# Altium schematic symbol library kmilo17pet-NSC_LDO.SchLib: 2675 symbols (part 46 of 65)
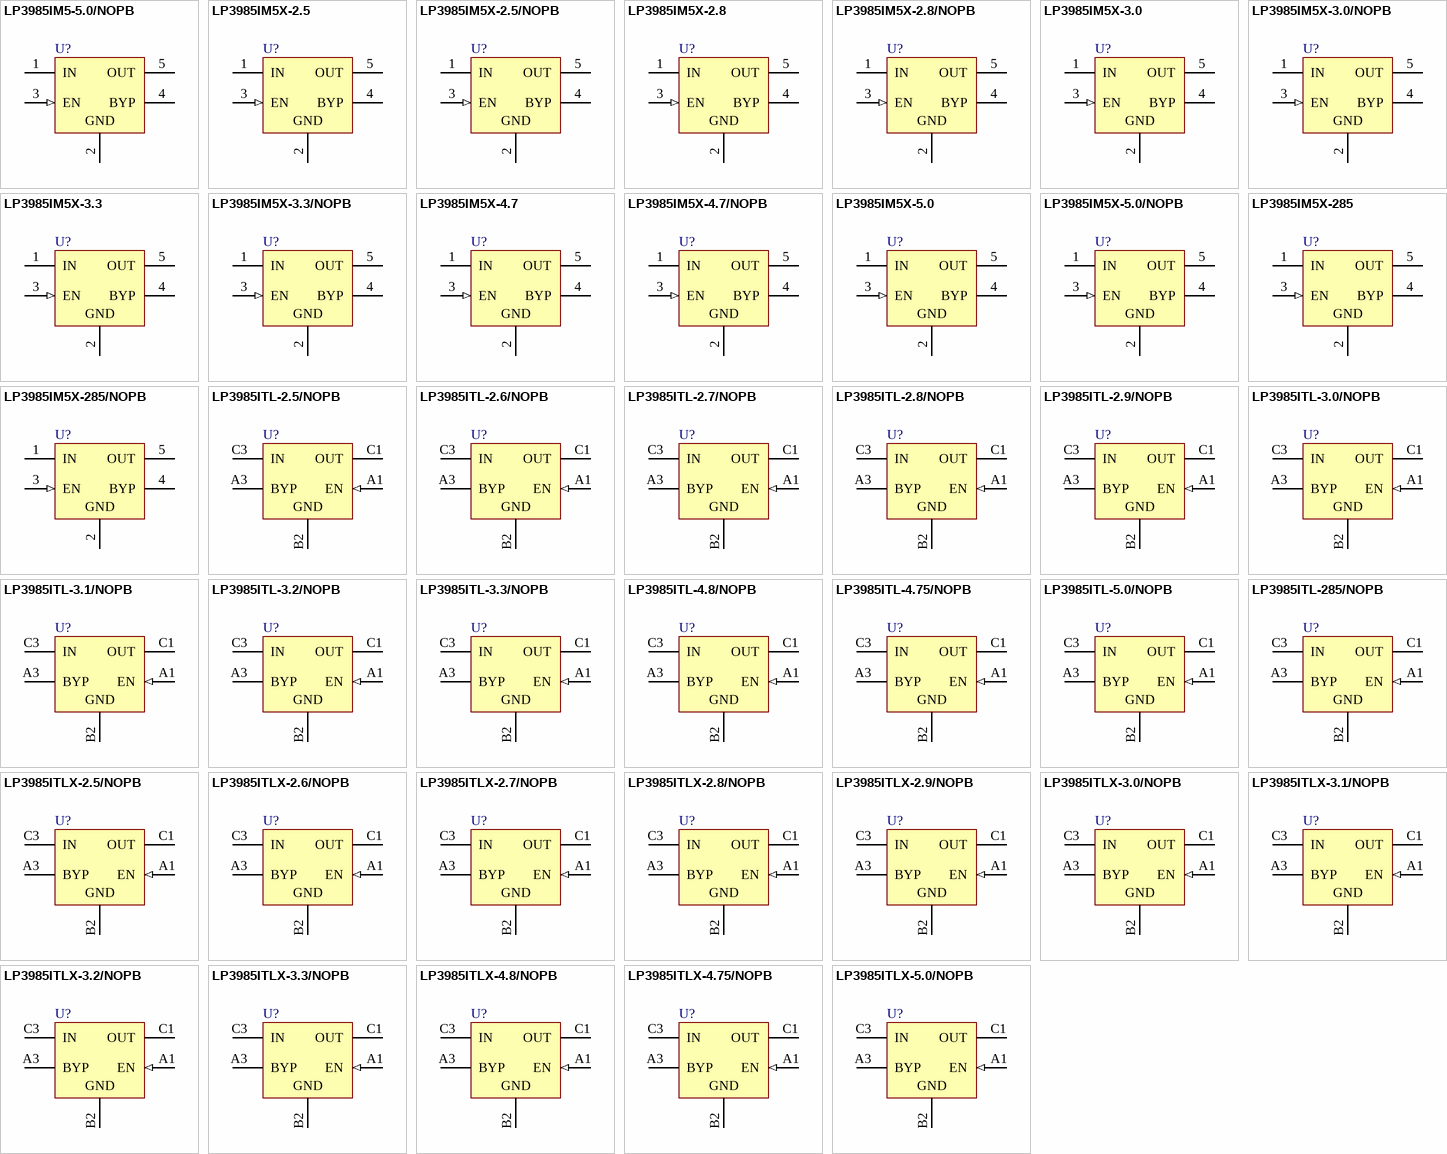
[diagram p112: symbols LP3985IM5-5.0/NOPB to LP3985ITLX-5.0/NOPB]

## LP3985ITL-5.0/NOPB
designator U?
Micropower, 150mA Low-Noise Ultra Low-Dropout CMOS Voltage Regulator, 5-pin Micro SMD, Pb-Free; PartNumber: LP3985ITL-5.0/NOPB; Manufacturer: National Semiconductor; PackageTopMarking: XV*I 5; PowerWise: N; CompType: LDO IC; High-Reliability: Y; DatasheetVersion: Aug-2005; PackageVersion: revC, Feb-2005; PackageReference: TLA05AEA; PackageDescription: Thin Micro SMD, 5 Bump (Large), 0.5mm Pitch; RoHS: Y; PinCount: 5; ComponentLink1Description: Manufacturer URL; ComponentLink1URL: http://www.national.com/; ComponentLink2Description: LP3985 Datasheet; ComponentLink2URL: http://www.national.com/ds/LP/LP3985.pdf; ComponentLink3Description: LP3985 Web Page; ComponentLink3URL: http://www.national.com/pf/LP/LP3985.html; ComponentLink4Description: TLA05AEA Package Page; ComponentLink4URL: http://www.national.com/packaging/folders/tla05aea.html
footprint TLA05AEA (Micro SMD, 5-Leads, Body 1.45x1.01mm, Pitch 0.5mm, NSC Recommended)
pins: A1 EN (in), A3 BYP, B2 GND (power), C1 OUT (power), C3 IN (power)

## LP3985ITL-285/NOPB
designator U?
Micropower, 150mA Low-Noise Ultra Low-Dropout CMOS Voltage Regulator, 5-pin Micro SMD, Pb-Free; PartNumber: LP3985ITL-285/NOPB; Manufacturer: National Semiconductor; PackageTopMarking: XV*I 5; PowerWise: N; CompType: LDO IC; High-Reliability: Y; DatasheetVersion: Aug-2005; PackageVersion: revC, Feb-2005; PackageReference: TLA05AEA; PackageDescription: Thin Micro SMD, 5 Bump (Large), 0.5mm Pitch; RoHS: Y; PinCount: 5; ComponentLink1Description: Manufacturer URL; ComponentLink1URL: http://www.national.com/; ComponentLink2Description: LP3985 Datasheet; ComponentLink2URL: http://www.national.com/ds/LP/LP3985.pdf; ComponentLink3Description: LP3985 Web Page; ComponentLink3URL: http://www.national.com/pf/LP/LP3985.html; ComponentLink4Description: TLA05AEA Package Page; ComponentLink4URL: http://www.national.com/packaging/folders/tla05aea.html
footprint TLA05AEA (Micro SMD, 5-Leads, Body 1.45x1.01mm, Pitch 0.5mm, NSC Recommended)
pins: A1 EN (in), A3 BYP, B2 GND (power), C1 OUT (power), C3 IN (power)

## LP3985ITLX-2.5/NOPB
designator U?
Micropower, 150mA Low-Noise Ultra Low-Dropout CMOS Voltage Regulator, 5-pin Micro SMD, Pb-Free; PartNumber: LP3985ITLX-2.5/NOPB; Manufacturer: National Semiconductor; PackageTopMarking: XV*I 5; PowerWise: N; CompType: LDO IC; High-Reliability: Y; DatasheetVersion: Aug-2005; PackageVersion: revC, Feb-2005; PackageReference: TLA05AEA; PackageDescription: Thin Micro SMD, 5 Bump (Large), 0.5mm Pitch; RoHS: Y; PinCount: 5; ComponentLink1Description: Manufacturer URL; ComponentLink1URL: http://www.national.com/; ComponentLink2Description: LP3985 Datasheet; ComponentLink2URL: http://www.national.com/ds/LP/LP3985.pdf; ComponentLink3Description: LP3985 Web Page; ComponentLink3URL: http://www.national.com/pf/LP/LP3985.html; ComponentLink4Description: TLA05AEA Package Page; ComponentLink4URL: http://www.national.com/packaging/folders/tla05aea.html
footprint TLA05AEA (Micro SMD, 5-Leads, Body 1.45x1.01mm, Pitch 0.5mm, NSC Recommended)
pins: A1 EN (in), A3 BYP, B2 GND (power), C1 OUT (power), C3 IN (power)

## LP3985ITLX-2.6/NOPB
designator U?
Micropower, 150mA Low-Noise Ultra Low-Dropout CMOS Voltage Regulator, 5-pin Micro SMD, Pb-Free; PartNumber: LP3985ITLX-2.6/NOPB; Manufacturer: National Semiconductor; PackageTopMarking: XV*I 5; PowerWise: N; CompType: LDO IC; High-Reliability: Y; DatasheetVersion: Aug-2005; PackageVersion: revC, Feb-2005; PackageReference: TLA05AEA; PackageDescription: Thin Micro SMD, 5 Bump (Large), 0.5mm Pitch; RoHS: Y; PinCount: 5; ComponentLink1Description: Manufacturer URL; ComponentLink1URL: http://www.national.com/; ComponentLink2Description: LP3985 Datasheet; ComponentLink2URL: http://www.national.com/ds/LP/LP3985.pdf; ComponentLink3Description: LP3985 Web Page; ComponentLink3URL: http://www.national.com/pf/LP/LP3985.html; ComponentLink4Description: TLA05AEA Package Page; ComponentLink4URL: http://www.national.com/packaging/folders/tla05aea.html
footprint TLA05AEA (Micro SMD, 5-Leads, Body 1.45x1.01mm, Pitch 0.5mm, NSC Recommended)
pins: A1 EN (in), A3 BYP, B2 GND (power), C1 OUT (power), C3 IN (power)

## LP3985ITLX-2.7/NOPB
designator U?
Micropower, 150mA Low-Noise Ultra Low-Dropout CMOS Voltage Regulator, 5-pin Micro SMD, Pb-Free; PartNumber: LP3985ITLX-2.7/NOPB; Manufacturer: National Semiconductor; PackageTopMarking: XV*I 5; PowerWise: N; CompType: LDO IC; High-Reliability: Y; DatasheetVersion: Aug-2005; PackageVersion: revC, Feb-2005; PackageReference: TLA05AEA; PackageDescription: Thin Micro SMD, 5 Bump (Large), 0.5mm Pitch; RoHS: Y; PinCount: 5; ComponentLink1Description: Manufacturer URL; ComponentLink1URL: http://www.national.com/; ComponentLink2Description: LP3985 Datasheet; ComponentLink2URL: http://www.national.com/ds/LP/LP3985.pdf; ComponentLink3Description: LP3985 Web Page; ComponentLink3URL: http://www.national.com/pf/LP/LP3985.html; ComponentLink4Description: TLA05AEA Package Page; ComponentLink4URL: http://www.national.com/packaging/folders/tla05aea.html
footprint TLA05AEA (Micro SMD, 5-Leads, Body 1.45x1.01mm, Pitch 0.5mm, NSC Recommended)
pins: A1 EN (in), A3 BYP, B2 GND (power), C1 OUT (power), C3 IN (power)

## LP3985ITLX-2.8/NOPB
designator U?
Micropower, 150mA Low-Noise Ultra Low-Dropout CMOS Voltage Regulator, 5-pin Micro SMD, Pb-Free; PartNumber: LP3985ITLX-2.8/NOPB; Manufacturer: National Semiconductor; PackageTopMarking: XV*I 5; PowerWise: N; CompType: LDO IC; High-Reliability: Y; DatasheetVersion: Aug-2005; PackageVersion: revC, Feb-2005; PackageReference: TLA05AEA; PackageDescription: Thin Micro SMD, 5 Bump (Large), 0.5mm Pitch; RoHS: Y; PinCount: 5; ComponentLink1Description: Manufacturer URL; ComponentLink1URL: http://www.national.com/; ComponentLink2Description: LP3985 Datasheet; ComponentLink2URL: http://www.national.com/ds/LP/LP3985.pdf; ComponentLink3Description: LP3985 Web Page; ComponentLink3URL: http://www.national.com/pf/LP/LP3985.html; ComponentLink4Description: TLA05AEA Package Page; ComponentLink4URL: http://www.national.com/packaging/folders/tla05aea.html
footprint TLA05AEA (Micro SMD, 5-Leads, Body 1.45x1.01mm, Pitch 0.5mm, NSC Recommended)
pins: A1 EN (in), A3 BYP, B2 GND (power), C1 OUT (power), C3 IN (power)

## LP3985ITLX-2.9/NOPB
designator U?
Micropower, 150mA Low-Noise Ultra Low-Dropout CMOS Voltage Regulator, 5-pin Micro SMD, Pb-Free; PartNumber: LP3985ITLX-2.9/NOPB; Manufacturer: National Semiconductor; PackageTopMarking: XV*I 5; PowerWise: N; CompType: LDO IC; High-Reliability: Y; DatasheetVersion: Aug-2005; PackageVersion: revC, Feb-2005; PackageReference: TLA05AEA; PackageDescription: Thin Micro SMD, 5 Bump (Large), 0.5mm Pitch; RoHS: Y; PinCount: 5; ComponentLink1Description: Manufacturer URL; ComponentLink1URL: http://www.national.com/; ComponentLink2Description: LP3985 Datasheet; ComponentLink2URL: http://www.national.com/ds/LP/LP3985.pdf; ComponentLink3Description: LP3985 Web Page; ComponentLink3URL: http://www.national.com/pf/LP/LP3985.html; ComponentLink4Description: TLA05AEA Package Page; ComponentLink4URL: http://www.national.com/packaging/folders/tla05aea.html
footprint TLA05AEA (Micro SMD, 5-Leads, Body 1.45x1.01mm, Pitch 0.5mm, NSC Recommended)
pins: A1 EN (in), A3 BYP, B2 GND (power), C1 OUT (power), C3 IN (power)

## LP3985ITLX-3.0/NOPB
designator U?
Micropower, 150mA Low-Noise Ultra Low-Dropout CMOS Voltage Regulator, 5-pin Micro SMD, Pb-Free; PartNumber: LP3985ITLX-3.0/NOPB; Manufacturer: National Semiconductor; PackageTopMarking: XV*I 5; PowerWise: N; CompType: LDO IC; High-Reliability: Y; DatasheetVersion: Aug-2005; PackageVersion: revC, Feb-2005; PackageReference: TLA05AEA; PackageDescription: Thin Micro SMD, 5 Bump (Large), 0.5mm Pitch; RoHS: Y; PinCount: 5; ComponentLink1Description: Manufacturer URL; ComponentLink1URL: http://www.national.com/; ComponentLink2Description: LP3985 Datasheet; ComponentLink2URL: http://www.national.com/ds/LP/LP3985.pdf; ComponentLink3Description: LP3985 Web Page; ComponentLink3URL: http://www.national.com/pf/LP/LP3985.html; ComponentLink4Description: TLA05AEA Package Page; ComponentLink4URL: http://www.national.com/packaging/folders/tla05aea.html
footprint TLA05AEA (Micro SMD, 5-Leads, Body 1.45x1.01mm, Pitch 0.5mm, NSC Recommended)
pins: A1 EN (in), A3 BYP, B2 GND (power), C1 OUT (power), C3 IN (power)

## LP3985ITLX-3.1/NOPB
designator U?
Micropower, 150mA Low-Noise Ultra Low-Dropout CMOS Voltage Regulator, 5-pin Micro SMD, Pb-Free; PartNumber: LP3985ITLX-3.1/NOPB; Manufacturer: National Semiconductor; PackageTopMarking: XV*I 5; PowerWise: N; CompType: LDO IC; High-Reliability: Y; DatasheetVersion: Aug-2005; PackageVersion: revC, Feb-2005; PackageReference: TLA05AEA; PackageDescription: Thin Micro SMD, 5 Bump (Large), 0.5mm Pitch; RoHS: Y; PinCount: 5; ComponentLink1Description: Manufacturer URL; ComponentLink1URL: http://www.national.com/; ComponentLink2Description: LP3985 Datasheet; ComponentLink2URL: http://www.national.com/ds/LP/LP3985.pdf; ComponentLink3Description: LP3985 Web Page; ComponentLink3URL: http://www.national.com/pf/LP/LP3985.html; ComponentLink4Description: TLA05AEA Package Page; ComponentLink4URL: http://www.national.com/packaging/folders/tla05aea.html
footprint TLA05AEA (Micro SMD, 5-Leads, Body 1.45x1.01mm, Pitch 0.5mm, NSC Recommended)
pins: A1 EN (in), A3 BYP, B2 GND (power), C1 OUT (power), C3 IN (power)

## LP3985ITLX-3.2/NOPB
designator U?
Micropower, 150mA Low-Noise Ultra Low-Dropout CMOS Voltage Regulator, 5-pin Micro SMD, Pb-Free; PartNumber: LP3985ITLX-3.2/NOPB; Manufacturer: National Semiconductor; PackageTopMarking: XV*I 5; PowerWise: N; CompType: LDO IC; High-Reliability: Y; DatasheetVersion: Aug-2005; PackageVersion: revC, Feb-2005; PackageReference: TLA05AEA; PackageDescription: Thin Micro SMD, 5 Bump (Large), 0.5mm Pitch; RoHS: Y; PinCount: 5; ComponentLink1Description: Manufacturer URL; ComponentLink1URL: http://www.national.com/; ComponentLink2Description: LP3985 Datasheet; ComponentLink2URL: http://www.national.com/ds/LP/LP3985.pdf; ComponentLink3Description: LP3985 Web Page; ComponentLink3URL: http://www.national.com/pf/LP/LP3985.html; ComponentLink4Description: TLA05AEA Package Page; ComponentLink4URL: http://www.national.com/packaging/folders/tla05aea.html
footprint TLA05AEA (Micro SMD, 5-Leads, Body 1.45x1.01mm, Pitch 0.5mm, NSC Recommended)
pins: A1 EN (in), A3 BYP, B2 GND (power), C1 OUT (power), C3 IN (power)

## LP3985ITLX-3.3/NOPB
designator U?
Micropower, 150mA Low-Noise Ultra Low-Dropout CMOS Voltage Regulator, 5-pin Micro SMD, Pb-Free; PartNumber: LP3985ITLX-3.3/NOPB; Manufacturer: National Semiconductor; PackageTopMarking: XV*I 5; PowerWise: N; CompType: LDO IC; High-Reliability: Y; DatasheetVersion: Aug-2005; PackageVersion: revC, Feb-2005; PackageReference: TLA05AEA; PackageDescription: Thin Micro SMD, 5 Bump (Large), 0.5mm Pitch; RoHS: Y; PinCount: 5; ComponentLink1Description: Manufacturer URL; ComponentLink1URL: http://www.national.com/; ComponentLink2Description: LP3985 Datasheet; ComponentLink2URL: http://www.national.com/ds/LP/LP3985.pdf; ComponentLink3Description: LP3985 Web Page; ComponentLink3URL: http://www.national.com/pf/LP/LP3985.html; ComponentLink4Description: TLA05AEA Package Page; ComponentLink4URL: http://www.national.com/packaging/folders/tla05aea.html
footprint TLA05AEA (Micro SMD, 5-Leads, Body 1.45x1.01mm, Pitch 0.5mm, NSC Recommended)
pins: A1 EN (in), A3 BYP, B2 GND (power), C1 OUT (power), C3 IN (power)

## LP3985ITLX-4.8/NOPB
designator U?
Micropower, 150mA Low-Noise Ultra Low-Dropout CMOS Voltage Regulator, 5-pin Micro SMD, Pb-Free; PartNumber: LP3985ITLX-4.8/NOPB; Manufacturer: National Semiconductor; PackageTopMarking: XV*I 5; PowerWise: N; CompType: LDO IC; High-Reliability: Y; DatasheetVersion: Aug-2005; PackageVersion: revC, Feb-2005; PackageReference: TLA05AEA; PackageDescription: Thin Micro SMD, 5 Bump (Large), 0.5mm Pitch; RoHS: Y; PinCount: 5; ComponentLink1Description: Manufacturer URL; ComponentLink1URL: http://www.national.com/; ComponentLink2Description: LP3985 Datasheet; ComponentLink2URL: http://www.national.com/ds/LP/LP3985.pdf; ComponentLink3Description: LP3985 Web Page; ComponentLink3URL: http://www.national.com/pf/LP/LP3985.html; ComponentLink4Description: TLA05AEA Package Page; ComponentLink4URL: http://www.national.com/packaging/folders/tla05aea.html
footprint TLA05AEA (Micro SMD, 5-Leads, Body 1.45x1.01mm, Pitch 0.5mm, NSC Recommended)
pins: A1 EN (in), A3 BYP, B2 GND (power), C1 OUT (power), C3 IN (power)

## LP3985ITLX-4.75/NOPB
designator U?
Micropower, 150mA Low-Noise Ultra Low-Dropout CMOS Voltage Regulator, 5-pin Micro SMD, Pb-Free; PartNumber: LP3985ITLX-4.75/NOPB; Manufacturer: National Semiconductor; PackageTopMarking: XV*I 5; PowerWise: N; CompType: LDO IC; High-Reliability: Y; DatasheetVersion: Aug-2005; PackageVersion: revC, Feb-2005; PackageReference: TLA05AEA; PackageDescription: Thin Micro SMD, 5 Bump (Large), 0.5mm Pitch; RoHS: Y; PinCount: 5; ComponentLink1Description: Manufacturer URL; ComponentLink1URL: http://www.national.com/; ComponentLink2Description: LP3985 Datasheet; ComponentLink2URL: http://www.national.com/ds/LP/LP3985.pdf; ComponentLink3Description: LP3985 Web Page; ComponentLink3URL: http://www.national.com/pf/LP/LP3985.html; ComponentLink4Description: TLA05AEA Package Page; ComponentLink4URL: http://www.national.com/packaging/folders/tla05aea.html
footprint TLA05AEA (Micro SMD, 5-Leads, Body 1.45x1.01mm, Pitch 0.5mm, NSC Recommended)
pins: A1 EN (in), A3 BYP, B2 GND (power), C1 OUT (power), C3 IN (power)

## LP3985ITLX-5.0/NOPB
designator U?
Micropower, 150mA Low-Noise Ultra Low-Dropout CMOS Voltage Regulator, 5-pin Micro SMD, Pb-Free; PartNumber: LP3985ITLX-5.0/NOPB; Manufacturer: National Semiconductor; PackageTopMarking: XV*I 5; PowerWise: N; CompType: LDO IC; High-Reliability: Y; DatasheetVersion: Aug-2005; PackageVersion: revC, Feb-2005; PackageReference: TLA05AEA; PackageDescription: Thin Micro SMD, 5 Bump (Large), 0.5mm Pitch; RoHS: Y; PinCount: 5; ComponentLink1Description: Manufacturer URL; ComponentLink1URL: http://www.national.com/; ComponentLink2Description: LP3985 Datasheet; ComponentLink2URL: http://www.national.com/ds/LP/LP3985.pdf; ComponentLink3Description: LP3985 Web Page; ComponentLink3URL: http://www.national.com/pf/LP/LP3985.html; ComponentLink4Description: TLA05AEA Package Page; ComponentLink4URL: http://www.national.com/packaging/folders/tla05aea.html
footprint TLA05AEA (Micro SMD, 5-Leads, Body 1.45x1.01mm, Pitch 0.5mm, NSC Recommended)
pins: A1 EN (in), A3 BYP, B2 GND (power), C1 OUT (power), C3 IN (power)

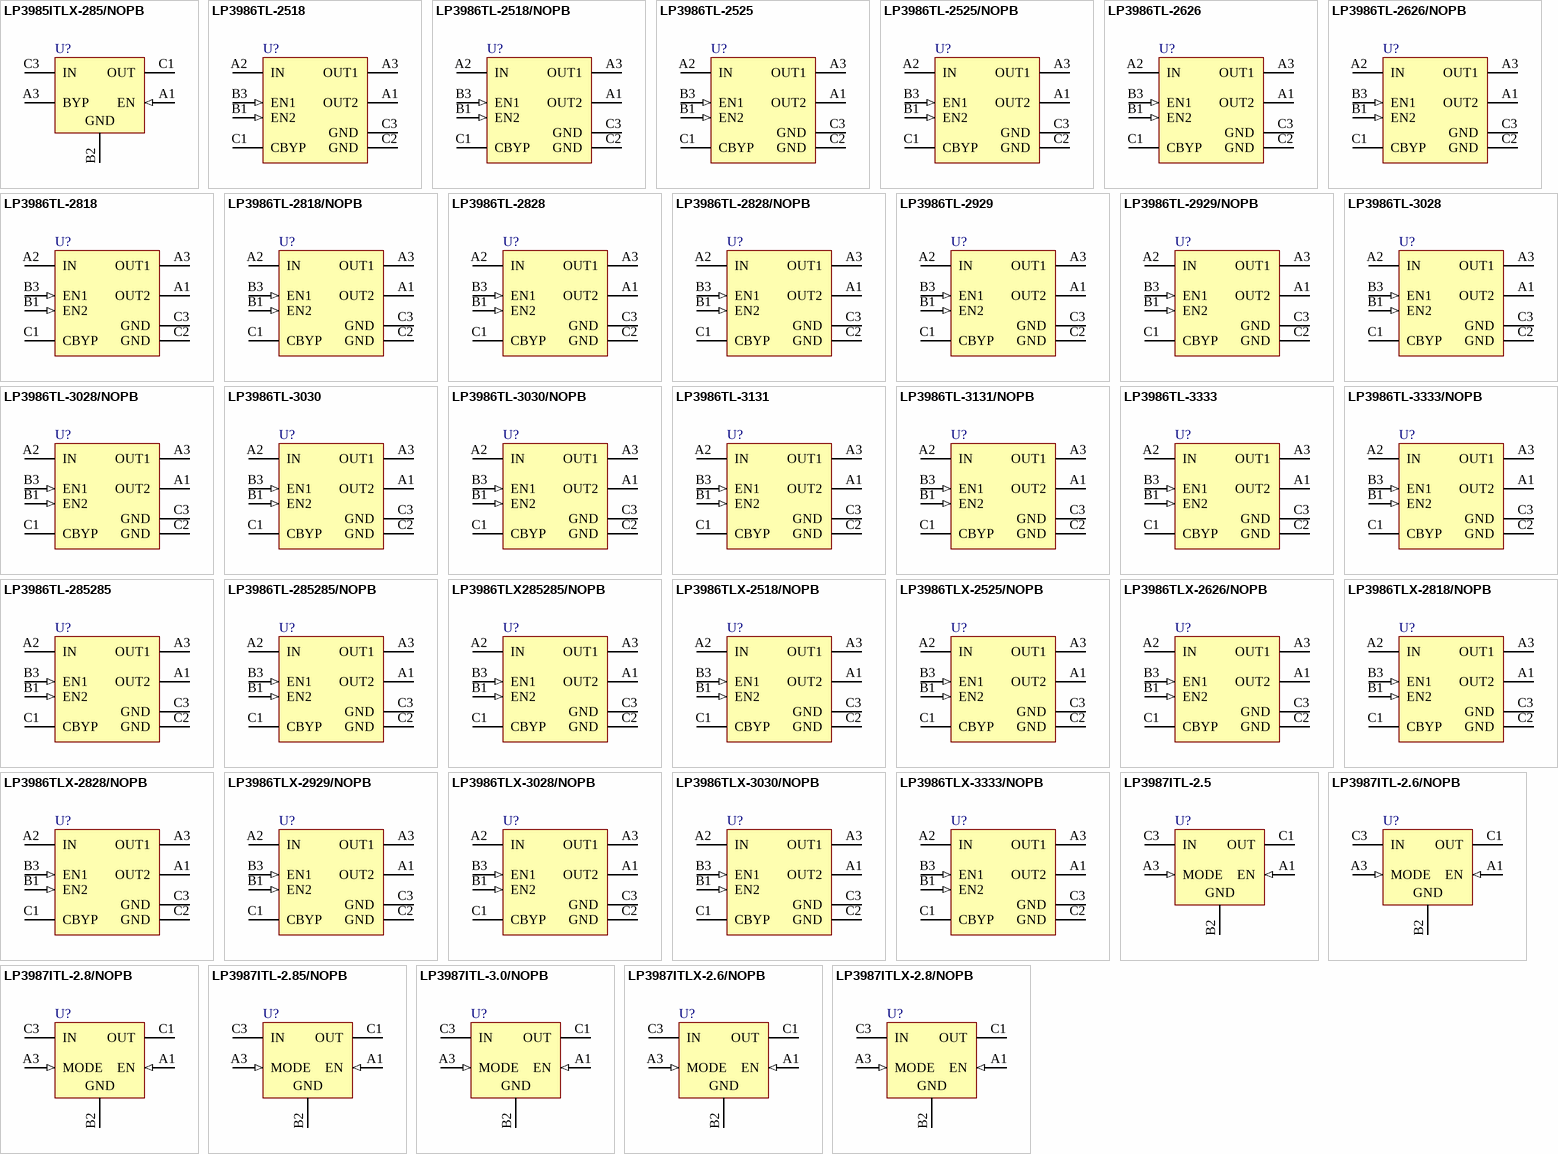
[diagram p47: symbols LP3985ITLX-285/NOPB to LP3987ITLX-2.8/NOPB]

## LP3985ITLX-285/NOPB
designator U?
Micropower, 150mA Low-Noise Ultra Low-Dropout CMOS Voltage Regulator, 5-pin Micro SMD, Pb-Free; PartNumber: LP3985ITLX-285/NOPB; Manufacturer: National Semiconductor; PackageTopMarking: XV*I 5; PowerWise: N; CompType: LDO IC; High-Reliability: Y; DatasheetVersion: Aug-2005; PackageVersion: revC, Feb-2005; PackageReference: TLA05AEA; PackageDescription: Thin Micro SMD, 5 Bump (Large), 0.5mm Pitch; RoHS: Y; PinCount: 5; ComponentLink1Description: Manufacturer URL; ComponentLink1URL: http://www.national.com/; ComponentLink2Description: LP3985 Datasheet; ComponentLink2URL: http://www.national.com/ds/LP/LP3985.pdf; ComponentLink3Description: LP3985 Web Page; ComponentLink3URL: http://www.national.com/pf/LP/LP3985.html; ComponentLink4Description: TLA05AEA Package Page; ComponentLink4URL: http://www.national.com/packaging/folders/tla05aea.html
footprint TLA05AEA (Micro SMD, 5-Leads, Body 1.45x1.01mm, Pitch 0.5mm, NSC Recommended)
pins: A1 EN (in), A3 BYP, B2 GND (power), C1 OUT (power), C3 IN (power)

## LP3986TL-2518
designator U?
Dual Micropower 150 mA Ultra Low-Dropout CMOS Voltage Regulators, 8-pin Micro SMD; PartNumber: LP3986TL-2518; Manufacturer: National Semiconductor; PackageTopMarking: XVD*I 30; PowerWise: N; CompType: LDO IC; High-Reliability: Y; DatasheetVersion: Feb-2007; PackageVersion: revC, Jan-2004; PackageReference: TLA08CCA; PackageDescription: Thin Micro SMD, 8 Bump (Large), 0.5mm Pitch; RoHS: Y; PinCount: 8; Code_JEDEC: MO-211-DD; ComponentLink1Description: Manufacturer URL; ComponentLink1URL: http://www.national.com/; ComponentLink2Description: LP3986 Datasheet; ComponentLink2URL: http://www.national.com/ds/LP/LP3986.pdf; ComponentLink3Description: LP3986 Web Page; ComponentLink3URL: http://www.national.com/pf/LP/LP3986.html; ComponentLink4Description: TLA08CCA Package Page; ComponentLink4URL: http://www.national.com/packaging/folders/tla08cca.html
footprint TLA08CCA (Micro SMD, 8-Leads, Body 1.57x1.57mm, Pitch 0.5mm, NSC Recommended)
pins: A1 OUT2 (power), A2 IN (power), A3 OUT1 (power), B1 EN2 (in), B3 EN1 (in), C1 CBYP, C2 GND (power), C3 GND (power)

## LP3986TL-2518/NOPB
designator U?
Dual Micropower 150 mA Ultra Low-Dropout CMOS Voltage Regulators, 8-pin Micro SMD, Pb-Free; PartNumber: LP3986TL-2518/NOPB; Manufacturer: National Semiconductor; PackageTopMarking: XVD*I 30; PowerWise: N; CompType: LDO IC; High-Reliability: Y; DatasheetVersion: Feb-2007; PackageVersion: revC, Jan-2004; PackageReference: TLA08CCA; PackageDescription: Thin Micro SMD, 8 Bump (Large), 0.5mm Pitch; RoHS: Y; PinCount: 8; Code_JEDEC: MO-211-DD; ComponentLink1Description: Manufacturer URL; ComponentLink1URL: http://www.national.com/; ComponentLink2Description: LP3986 Datasheet; ComponentLink2URL: http://www.national.com/ds/LP/LP3986.pdf; ComponentLink3Description: LP3986 Web Page; ComponentLink3URL: http://www.national.com/pf/LP/LP3986.html; ComponentLink4Description: TLA08CCA Package Page; ComponentLink4URL: http://www.national.com/packaging/folders/tla08cca.html
footprint TLA08CCA (Micro SMD, 8-Leads, Body 1.57x1.57mm, Pitch 0.5mm, NSC Recommended)
pins: A1 OUT2 (power), A2 IN (power), A3 OUT1 (power), B1 EN2 (in), B3 EN1 (in), C1 CBYP, C2 GND (power), C3 GND (power)

## LP3986TL-2525
designator U?
Dual Micropower 150 mA Ultra Low-Dropout CMOS Voltage Regulators, 8-pin Micro SMD; PartNumber: LP3986TL-2525; Manufacturer: National Semiconductor; PackageTopMarking: XVD*I 27; PowerWise: N; CompType: LDO IC; High-Reliability: Y; DatasheetVersion: Feb-2007; PackageVersion: revC, Jan-2004; PackageReference: TLA08CCA; PackageDescription: Thin Micro SMD, 8 Bump (Large), 0.5mm Pitch; RoHS: Y; PinCount: 8; Code_JEDEC: MO-211-DD; ComponentLink1Description: Manufacturer URL; ComponentLink1URL: http://www.national.com/; ComponentLink2Description: LP3986 Datasheet; ComponentLink2URL: http://www.national.com/ds/LP/LP3986.pdf; ComponentLink3Description: LP3986 Web Page; ComponentLink3URL: http://www.national.com/pf/LP/LP3986.html; ComponentLink4Description: TLA08CCA Package Page; ComponentLink4URL: http://www.national.com/packaging/folders/tla08cca.html
footprint TLA08CCA (Micro SMD, 8-Leads, Body 1.57x1.57mm, Pitch 0.5mm, NSC Recommended)
pins: A1 OUT2 (power), A2 IN (power), A3 OUT1 (power), B1 EN2 (in), B3 EN1 (in), C1 CBYP, C2 GND (power), C3 GND (power)

## LP3986TL-2525/NOPB
designator U?
Dual Micropower 150 mA Ultra Low-Dropout CMOS Voltage Regulators, 8-pin Micro SMD, Pb-Free; PartNumber: LP3986TL-2525/NOPB; Manufacturer: National Semiconductor; PackageTopMarking: XVD*I 27; PowerWise: N; CompType: LDO IC; High-Reliability: Y; DatasheetVersion: Feb-2007; PackageVersion: revC, Jan-2004; PackageReference: TLA08CCA; PackageDescription: Thin Micro SMD, 8 Bump (Large), 0.5mm Pitch; RoHS: Y; PinCount: 8; Code_JEDEC: MO-211-DD; ComponentLink1Description: Manufacturer URL; ComponentLink1URL: http://www.national.com/; ComponentLink2Description: LP3986 Datasheet; ComponentLink2URL: http://www.national.com/ds/LP/LP3986.pdf; ComponentLink3Description: LP3986 Web Page; ComponentLink3URL: http://www.national.com/pf/LP/LP3986.html; ComponentLink4Description: TLA08CCA Package Page; ComponentLink4URL: http://www.national.com/packaging/folders/tla08cca.html
footprint TLA08CCA (Micro SMD, 8-Leads, Body 1.57x1.57mm, Pitch 0.5mm, NSC Recommended)
pins: A1 OUT2 (power), A2 IN (power), A3 OUT1 (power), B1 EN2 (in), B3 EN1 (in), C1 CBYP, C2 GND (power), C3 GND (power)

## LP3986TL-2626
designator U?
Dual Micropower 150 mA Ultra Low-Dropout CMOS Voltage Regulators, 8-pin Micro SMD; PartNumber: LP3986TL-2626; Manufacturer: National Semiconductor; PackageTopMarking: XVD*I 28; PowerWise: N; CompType: LDO IC; High-Reliability: Y; DatasheetVersion: Feb-2007; PackageVersion: revC, Jan-2004; PackageReference: TLA08CCA; PackageDescription: Thin Micro SMD, 8 Bump (Large), 0.5mm Pitch; RoHS: Y; PinCount: 8; Code_JEDEC: MO-211-DD; ComponentLink1Description: Manufacturer URL; ComponentLink1URL: http://www.national.com/; ComponentLink2Description: LP3986 Datasheet; ComponentLink2URL: http://www.national.com/ds/LP/LP3986.pdf; ComponentLink3Description: LP3986 Web Page; ComponentLink3URL: http://www.national.com/pf/LP/LP3986.html; ComponentLink4Description: TLA08CCA Package Page; ComponentLink4URL: http://www.national.com/packaging/folders/tla08cca.html
footprint TLA08CCA (Micro SMD, 8-Leads, Body 1.57x1.57mm, Pitch 0.5mm, NSC Recommended)
pins: A1 OUT2 (power), A2 IN (power), A3 OUT1 (power), B1 EN2 (in), B3 EN1 (in), C1 CBYP, C2 GND (power), C3 GND (power)

## LP3986TL-2626/NOPB
designator U?
Dual Micropower 150 mA Ultra Low-Dropout CMOS Voltage Regulators, 8-pin Micro SMD, Pb-Free; PartNumber: LP3986TL-2626/NOPB; Manufacturer: National Semiconductor; PackageTopMarking: XVD*I 28; PowerWise: N; CompType: LDO IC; High-Reliability: Y; DatasheetVersion: Feb-2007; PackageVersion: revC, Jan-2004; PackageReference: TLA08CCA; PackageDescription: Thin Micro SMD, 8 Bump (Large), 0.5mm Pitch; RoHS: Y; PinCount: 8; Code_JEDEC: MO-211-DD; ComponentLink1Description: Manufacturer URL; ComponentLink1URL: http://www.national.com/; ComponentLink2Description: LP3986 Datasheet; ComponentLink2URL: http://www.national.com/ds/LP/LP3986.pdf; ComponentLink3Description: LP3986 Web Page; ComponentLink3URL: http://www.national.com/pf/LP/LP3986.html; ComponentLink4Description: TLA08CCA Package Page; ComponentLink4URL: http://www.national.com/packaging/folders/tla08cca.html
footprint TLA08CCA (Micro SMD, 8-Leads, Body 1.57x1.57mm, Pitch 0.5mm, NSC Recommended)
pins: A1 OUT2 (power), A2 IN (power), A3 OUT1 (power), B1 EN2 (in), B3 EN1 (in), C1 CBYP, C2 GND (power), C3 GND (power)

## LP3986TL-2818
designator U?
Dual Micropower 150 mA Ultra Low-Dropout CMOS Voltage Regulators, 8-pin Micro SMD; PartNumber: LP3986TL-2818; Manufacturer: National Semiconductor; PackageTopMarking: XVD*I 25; PowerWise: N; CompType: LDO IC; High-Reliability: Y; DatasheetVersion: Feb-2007; PackageVersion: revC, Jan-2004; PackageReference: TLA08CCA; PackageDescription: Thin Micro SMD, 8 Bump (Large), 0.5mm Pitch; RoHS: Y; PinCount: 8; Code_JEDEC: MO-211-DD; ComponentLink1Description: Manufacturer URL; ComponentLink1URL: http://www.national.com/; ComponentLink2Description: LP3986 Datasheet; ComponentLink2URL: http://www.national.com/ds/LP/LP3986.pdf; ComponentLink3Description: LP3986 Web Page; ComponentLink3URL: http://www.national.com/pf/LP/LP3986.html; ComponentLink4Description: TLA08CCA Package Page; ComponentLink4URL: http://www.national.com/packaging/folders/tla08cca.html
footprint TLA08CCA (Micro SMD, 8-Leads, Body 1.57x1.57mm, Pitch 0.5mm, NSC Recommended)
pins: A1 OUT2 (power), A2 IN (power), A3 OUT1 (power), B1 EN2 (in), B3 EN1 (in), C1 CBYP, C2 GND (power), C3 GND (power)

## LP3986TL-2818/NOPB
designator U?
Dual Micropower 150 mA Ultra Low-Dropout CMOS Voltage Regulators, 8-pin Micro SMD, Pb-Free; PartNumber: LP3986TL-2818/NOPB; Manufacturer: National Semiconductor; PackageTopMarking: XVD*I 25; PowerWise: N; CompType: LDO IC; High-Reliability: Y; DatasheetVersion: Feb-2007; PackageVersion: revC, Jan-2004; PackageReference: TLA08CCA; PackageDescription: Thin Micro SMD, 8 Bump (Large), 0.5mm Pitch; RoHS: Y; PinCount: 8; Code_JEDEC: MO-211-DD; ComponentLink1Description: Manufacturer URL; ComponentLink1URL: http://www.national.com/; ComponentLink2Description: LP3986 Datasheet; ComponentLink2URL: http://www.national.com/ds/LP/LP3986.pdf; ComponentLink3Description: LP3986 Web Page; ComponentLink3URL: http://www.national.com/pf/LP/LP3986.html; ComponentLink4Description: TLA08CCA Package Page; ComponentLink4URL: http://www.national.com/packaging/folders/tla08cca.html
footprint TLA08CCA (Micro SMD, 8-Leads, Body 1.57x1.57mm, Pitch 0.5mm, NSC Recommended)
pins: A1 OUT2 (power), A2 IN (power), A3 OUT1 (power), B1 EN2 (in), B3 EN1 (in), C1 CBYP, C2 GND (power), C3 GND (power)

## LP3986TL-2828
designator U?
Dual Micropower 150 mA Ultra Low-Dropout CMOS Voltage Regulators, 8-pin Micro SMD; PartNumber: LP3986TL-2828; Manufacturer: National Semiconductor; PackageTopMarking: XVD*I 10; PowerWise: N; CompType: LDO IC; High-Reliability: Y; DatasheetVersion: Feb-2007; PackageVersion: revC, Jan-2004; PackageReference: TLA08CCA; PackageDescription: Thin Micro SMD, 8 Bump (Large), 0.5mm Pitch; RoHS: Y; PinCount: 8; Code_JEDEC: MO-211-DD; ComponentLink1Description: Manufacturer URL; ComponentLink1URL: http://www.national.com/; ComponentLink2Description: LP3986 Datasheet; ComponentLink2URL: http://www.national.com/ds/LP/LP3986.pdf; ComponentLink3Description: LP3986 Web Page; ComponentLink3URL: http://www.national.com/pf/LP/LP3986.html; ComponentLink4Description: TLA08CCA Package Page; ComponentLink4URL: http://www.national.com/packaging/folders/tla08cca.html
footprint TLA08CCA (Micro SMD, 8-Leads, Body 1.57x1.57mm, Pitch 0.5mm, NSC Recommended)
pins: A1 OUT2 (power), A2 IN (power), A3 OUT1 (power), B1 EN2 (in), B3 EN1 (in), C1 CBYP, C2 GND (power), C3 GND (power)

## LP3986TL-2828/NOPB
designator U?
Dual Micropower 150 mA Ultra Low-Dropout CMOS Voltage Regulators, 8-pin Micro SMD, Pb-Free; PartNumber: LP3986TL-2828/NOPB; Manufacturer: National Semiconductor; PackageTopMarking: XVD*I 10; PowerWise: N; CompType: LDO IC; High-Reliability: Y; DatasheetVersion: Feb-2007; PackageVersion: revC, Jan-2004; PackageReference: TLA08CCA; PackageDescription: Thin Micro SMD, 8 Bump (Large), 0.5mm Pitch; RoHS: Y; PinCount: 8; Code_JEDEC: MO-211-DD; ComponentLink1Description: Manufacturer URL; ComponentLink1URL: http://www.national.com/; ComponentLink2Description: LP3986 Datasheet; ComponentLink2URL: http://www.national.com/ds/LP/LP3986.pdf; ComponentLink3Description: LP3986 Web Page; ComponentLink3URL: http://www.national.com/pf/LP/LP3986.html; ComponentLink4Description: TLA08CCA Package Page; ComponentLink4URL: http://www.national.com/packaging/folders/tla08cca.html
footprint TLA08CCA (Micro SMD, 8-Leads, Body 1.57x1.57mm, Pitch 0.5mm, NSC Recommended)
pins: A1 OUT2 (power), A2 IN (power), A3 OUT1 (power), B1 EN2 (in), B3 EN1 (in), C1 CBYP, C2 GND (power), C3 GND (power)

## LP3986TL-2929
designator U?
Dual Micropower 150 mA Ultra Low-Dropout CMOS Voltage Regulators, 8-pin Micro SMD; PartNumber: LP3986TL-2929; Manufacturer: National Semiconductor; PackageTopMarking: XVD*I 15; PowerWise: N; CompType: LDO IC; High-Reliability: Y; DatasheetVersion: Feb-2007; PackageVersion: revC, Jan-2004; PackageReference: TLA08CCA; PackageDescription: Thin Micro SMD, 8 Bump (Large), 0.5mm Pitch; RoHS: Y; PinCount: 8; Code_JEDEC: MO-211-DD; ComponentLink1Description: Manufacturer URL; ComponentLink1URL: http://www.national.com/; ComponentLink2Description: LP3986 Datasheet; ComponentLink2URL: http://www.national.com/ds/LP/LP3986.pdf; ComponentLink3Description: LP3986 Web Page; ComponentLink3URL: http://www.national.com/pf/LP/LP3986.html; ComponentLink4Description: TLA08CCA Package Page; ComponentLink4URL: http://www.national.com/packaging/folders/tla08cca.html
footprint TLA08CCA (Micro SMD, 8-Leads, Body 1.57x1.57mm, Pitch 0.5mm, NSC Recommended)
pins: A1 OUT2 (power), A2 IN (power), A3 OUT1 (power), B1 EN2 (in), B3 EN1 (in), C1 CBYP, C2 GND (power), C3 GND (power)

## LP3986TL-2929/NOPB
designator U?
Dual Micropower 150 mA Ultra Low-Dropout CMOS Voltage Regulators, 8-pin Micro SMD, Pb-Free; PartNumber: LP3986TL-2929/NOPB; Manufacturer: National Semiconductor; PackageTopMarking: XVD*I 15; PowerWise: N; CompType: LDO IC; High-Reliability: Y; DatasheetVersion: Feb-2007; PackageVersion: revC, Jan-2004; PackageReference: TLA08CCA; PackageDescription: Thin Micro SMD, 8 Bump (Large), 0.5mm Pitch; RoHS: Y; PinCount: 8; Code_JEDEC: MO-211-DD; ComponentLink1Description: Manufacturer URL; ComponentLink1URL: http://www.national.com/; ComponentLink2Description: LP3986 Datasheet; ComponentLink2URL: http://www.national.com/ds/LP/LP3986.pdf; ComponentLink3Description: LP3986 Web Page; ComponentLink3URL: http://www.national.com/pf/LP/LP3986.html; ComponentLink4Description: TLA08CCA Package Page; ComponentLink4URL: http://www.national.com/packaging/folders/tla08cca.html
footprint TLA08CCA (Micro SMD, 8-Leads, Body 1.57x1.57mm, Pitch 0.5mm, NSC Recommended)
pins: A1 OUT2 (power), A2 IN (power), A3 OUT1 (power), B1 EN2 (in), B3 EN1 (in), C1 CBYP, C2 GND (power), C3 GND (power)

## LP3986TL-3028
designator U?
Dual Micropower 150 mA Ultra Low-Dropout CMOS Voltage Regulators, 8-pin Micro SMD; PartNumber: LP3986TL-3028; Manufacturer: National Semiconductor; PackageTopMarking: XVD*I 26; PowerWise: N; CompType: LDO IC; High-Reliability: Y; DatasheetVersion: Feb-2007; PackageVersion: revC, Jan-2004; PackageReference: TLA08CCA; PackageDescription: Thin Micro SMD, 8 Bump (Large), 0.5mm Pitch; RoHS: Y; PinCount: 8; Code_JEDEC: MO-211-DD; ComponentLink1Description: Manufacturer URL; ComponentLink1URL: http://www.national.com/; ComponentLink2Description: LP3986 Datasheet; ComponentLink2URL: http://www.national.com/ds/LP/LP3986.pdf; ComponentLink3Description: LP3986 Web Page; ComponentLink3URL: http://www.national.com/pf/LP/LP3986.html; ComponentLink4Description: TLA08CCA Package Page; ComponentLink4URL: http://www.national.com/packaging/folders/tla08cca.html
footprint TLA08CCA (Micro SMD, 8-Leads, Body 1.57x1.57mm, Pitch 0.5mm, NSC Recommended)
pins: A1 OUT2 (power), A2 IN (power), A3 OUT1 (power), B1 EN2 (in), B3 EN1 (in), C1 CBYP, C2 GND (power), C3 GND (power)

## LP3986TL-3028/NOPB
designator U?
Dual Micropower 150 mA Ultra Low-Dropout CMOS Voltage Regulators, 8-pin Micro SMD, Pb-Free; PartNumber: LP3986TL-3028/NOPB; Manufacturer: National Semiconductor; PackageTopMarking: XVD*I 26; PowerWise: N; CompType: LDO IC; High-Reliability: Y; DatasheetVersion: Feb-2007; PackageVersion: revC, Jan-2004; PackageReference: TLA08CCA; PackageDescription: Thin Micro SMD, 8 Bump (Large), 0.5mm Pitch; RoHS: Y; PinCount: 8; Code_JEDEC: MO-211-DD; ComponentLink1Description: Manufacturer URL; ComponentLink1URL: http://www.national.com/; ComponentLink2Description: LP3986 Datasheet; ComponentLink2URL: http://www.national.com/ds/LP/LP3986.pdf; ComponentLink3Description: LP3986 Web Page; ComponentLink3URL: http://www.national.com/pf/LP/LP3986.html; ComponentLink4Description: TLA08CCA Package Page; ComponentLink4URL: http://www.national.com/packaging/folders/tla08cca.html
footprint TLA08CCA (Micro SMD, 8-Leads, Body 1.57x1.57mm, Pitch 0.5mm, NSC Recommended)
pins: A1 OUT2 (power), A2 IN (power), A3 OUT1 (power), B1 EN2 (in), B3 EN1 (in), C1 CBYP, C2 GND (power), C3 GND (power)

## LP3986TL-3030
designator U?
Dual Micropower 150 mA Ultra Low-Dropout CMOS Voltage Regulators, 8-pin Micro SMD; PartNumber: LP3986TL-3030; Manufacturer: National Semiconductor; PackageTopMarking: XVD*I 12; PowerWise: N; CompType: LDO IC; High-Reliability: Y; DatasheetVersion: Feb-2007; PackageVersion: revC, Jan-2004; PackageReference: TLA08CCA; PackageDescription: Thin Micro SMD, 8 Bump (Large), 0.5mm Pitch; RoHS: Y; PinCount: 8; Code_JEDEC: MO-211-DD; ComponentLink1Description: Manufacturer URL; ComponentLink1URL: http://www.national.com/; ComponentLink2Description: LP3986 Datasheet; ComponentLink2URL: http://www.national.com/ds/LP/LP3986.pdf; ComponentLink3Description: LP3986 Web Page; ComponentLink3URL: http://www.national.com/pf/LP/LP3986.html; ComponentLink4Description: TLA08CCA Package Page; ComponentLink4URL: http://www.national.com/packaging/folders/tla08cca.html
footprint TLA08CCA (Micro SMD, 8-Leads, Body 1.57x1.57mm, Pitch 0.5mm, NSC Recommended)
pins: A1 OUT2 (power), A2 IN (power), A3 OUT1 (power), B1 EN2 (in), B3 EN1 (in), C1 CBYP, C2 GND (power), C3 GND (power)

## LP3986TL-3030/NOPB
designator U?
Dual Micropower 150 mA Ultra Low-Dropout CMOS Voltage Regulators, 8-pin Micro SMD, Pb-Free; PartNumber: LP3986TL-3030/NOPB; Manufacturer: National Semiconductor; PackageTopMarking: XVD*I 12; PowerWise: N; CompType: LDO IC; High-Reliability: Y; DatasheetVersion: Feb-2007; PackageVersion: revC, Jan-2004; PackageReference: TLA08CCA; PackageDescription: Thin Micro SMD, 8 Bump (Large), 0.5mm Pitch; RoHS: Y; PinCount: 8; Code_JEDEC: MO-211-DD; ComponentLink1Description: Manufacturer URL; ComponentLink1URL: http://www.national.com/; ComponentLink2Description: LP3986 Datasheet; ComponentLink2URL: http://www.national.com/ds/LP/LP3986.pdf; ComponentLink3Description: LP3986 Web Page; ComponentLink3URL: http://www.national.com/pf/LP/LP3986.html; ComponentLink4Description: TLA08CCA Package Page; ComponentLink4URL: http://www.national.com/packaging/folders/tla08cca.html
footprint TLA08CCA (Micro SMD, 8-Leads, Body 1.57x1.57mm, Pitch 0.5mm, NSC Recommended)
pins: A1 OUT2 (power), A2 IN (power), A3 OUT1 (power), B1 EN2 (in), B3 EN1 (in), C1 CBYP, C2 GND (power), C3 GND (power)

## LP3986TL-3131
designator U?
Dual Micropower 150 mA Ultra Low-Dropout CMOS Voltage Regulators, 8-pin Micro SMD; PartNumber: LP3986TL-3131; Manufacturer: National Semiconductor; PackageTopMarking: XVD*I 13; PowerWise: N; CompType: LDO IC; High-Reliability: Y; DatasheetVersion: Feb-2007; PackageVersion: revC, Jan-2004; PackageReference: TLA08CCA; PackageDescription: Thin Micro SMD, 8 Bump (Large), 0.5mm Pitch; RoHS: Y; PinCount: 8; Code_JEDEC: MO-211-DD; ComponentLink1Description: Manufacturer URL; ComponentLink1URL: http://www.national.com/; ComponentLink2Description: LP3986 Datasheet; ComponentLink2URL: http://www.national.com/ds/LP/LP3986.pdf; ComponentLink3Description: LP3986 Web Page; ComponentLink3URL: http://www.national.com/pf/LP/LP3986.html; ComponentLink4Description: TLA08CCA Package Page; ComponentLink4URL: http://www.national.com/packaging/folders/tla08cca.html
footprint TLA08CCA (Micro SMD, 8-Leads, Body 1.57x1.57mm, Pitch 0.5mm, NSC Recommended)
pins: A1 OUT2 (power), A2 IN (power), A3 OUT1 (power), B1 EN2 (in), B3 EN1 (in), C1 CBYP, C2 GND (power), C3 GND (power)

## LP3986TL-3131/NOPB
designator U?
Dual Micropower 150 mA Ultra Low-Dropout CMOS Voltage Regulators, 8-pin Micro SMD, Pb-Free; PartNumber: LP3986TL-3131/NOPB; Manufacturer: National Semiconductor; PackageTopMarking: XVD*I 13; PowerWise: N; CompType: LDO IC; High-Reliability: Y; DatasheetVersion: Feb-2007; PackageVersion: revC, Jan-2004; PackageReference: TLA08CCA; PackageDescription: Thin Micro SMD, 8 Bump (Large), 0.5mm Pitch; RoHS: Y; PinCount: 8; Code_JEDEC: MO-211-DD; ComponentLink1Description: Manufacturer URL; ComponentLink1URL: http://www.national.com/; ComponentLink2Description: LP3986 Datasheet; ComponentLink2URL: http://www.national.com/ds/LP/LP3986.pdf; ComponentLink3Description: LP3986 Web Page; ComponentLink3URL: http://www.national.com/pf/LP/LP3986.html; ComponentLink4Description: TLA08CCA Package Page; ComponentLink4URL: http://www.national.com/packaging/folders/tla08cca.html
footprint TLA08CCA (Micro SMD, 8-Leads, Body 1.57x1.57mm, Pitch 0.5mm, NSC Recommended)
pins: A1 OUT2 (power), A2 IN (power), A3 OUT1 (power), B1 EN2 (in), B3 EN1 (in), C1 CBYP, C2 GND (power), C3 GND (power)

## LP3986TL-3333
designator U?
Dual Micropower 150 mA Ultra Low-Dropout CMOS Voltage Regulators, 8-pin Micro SMD; PartNumber: LP3986TL-3333; Manufacturer: National Semiconductor; PackageTopMarking: XVD*I 17; PowerWise: N; CompType: LDO IC; High-Reliability: Y; DatasheetVersion: Feb-2007; PackageVersion: revC, Jan-2004; PackageReference: TLA08CCA; PackageDescription: Thin Micro SMD, 8 Bump (Large), 0.5mm Pitch; RoHS: Y; PinCount: 8; Code_JEDEC: MO-211-DD; ComponentLink1Description: Manufacturer URL; ComponentLink1URL: http://www.national.com/; ComponentLink2Description: LP3986 Datasheet; ComponentLink2URL: http://www.national.com/ds/LP/LP3986.pdf; ComponentLink3Description: LP3986 Web Page; ComponentLink3URL: http://www.national.com/pf/LP/LP3986.html; ComponentLink4Description: TLA08CCA Package Page; ComponentLink4URL: http://www.national.com/packaging/folders/tla08cca.html
footprint TLA08CCA (Micro SMD, 8-Leads, Body 1.57x1.57mm, Pitch 0.5mm, NSC Recommended)
pins: A1 OUT2 (power), A2 IN (power), A3 OUT1 (power), B1 EN2 (in), B3 EN1 (in), C1 CBYP, C2 GND (power), C3 GND (power)

## LP3986TL-3333/NOPB
designator U?
Dual Micropower 150 mA Ultra Low-Dropout CMOS Voltage Regulators, 8-pin Micro SMD, Pb-Free; PartNumber: LP3986TL-3333/NOPB; Manufacturer: National Semiconductor; PackageTopMarking: XVD*I 17; PowerWise: N; CompType: LDO IC; High-Reliability: Y; DatasheetVersion: Feb-2007; PackageVersion: revC, Jan-2004; PackageReference: TLA08CCA; PackageDescription: Thin Micro SMD, 8 Bump (Large), 0.5mm Pitch; RoHS: Y; PinCount: 8; Code_JEDEC: MO-211-DD; ComponentLink1Description: Manufacturer URL; ComponentLink1URL: http://www.national.com/; ComponentLink2Description: LP3986 Datasheet; ComponentLink2URL: http://www.national.com/ds/LP/LP3986.pdf; ComponentLink3Description: LP3986 Web Page; ComponentLink3URL: http://www.national.com/pf/LP/LP3986.html; ComponentLink4Description: TLA08CCA Package Page; ComponentLink4URL: http://www.national.com/packaging/folders/tla08cca.html
footprint TLA08CCA (Micro SMD, 8-Leads, Body 1.57x1.57mm, Pitch 0.5mm, NSC Recommended)
pins: A1 OUT2 (power), A2 IN (power), A3 OUT1 (power), B1 EN2 (in), B3 EN1 (in), C1 CBYP, C2 GND (power), C3 GND (power)

## LP3986TL-285285
designator U?
Dual Micropower 150 mA Ultra Low-Dropout CMOS Voltage Regulators, 8-pin Micro SMD; PartNumber: LP3986TL-285285; Manufacturer: National Semiconductor; PackageTopMarking: XVD*I 11; PowerWise: N; CompType: LDO IC; High-Reliability: Y; DatasheetVersion: Feb-2007; PackageVersion: revC, Jan-2004; PackageReference: TLA08CCA; PackageDescription: Thin Micro SMD, 8 Bump (Large), 0.5mm Pitch; RoHS: Y; PinCount: 8; Code_JEDEC: MO-211-DD; ComponentLink1Description: Manufacturer URL; ComponentLink1URL: http://www.national.com/; ComponentLink2Description: LP3986 Datasheet; ComponentLink2URL: http://www.national.com/ds/LP/LP3986.pdf; ComponentLink3Description: LP3986 Web Page; ComponentLink3URL: http://www.national.com/pf/LP/LP3986.html; ComponentLink4Description: TLA08CCA Package Page; ComponentLink4URL: http://www.national.com/packaging/folders/tla08cca.html
footprint TLA08CCA (Micro SMD, 8-Leads, Body 1.57x1.57mm, Pitch 0.5mm, NSC Recommended)
pins: A1 OUT2 (power), A2 IN (power), A3 OUT1 (power), B1 EN2 (in), B3 EN1 (in), C1 CBYP, C2 GND (power), C3 GND (power)

## LP3986TL-285285/NOPB
designator U?
Dual Micropower 150 mA Ultra Low-Dropout CMOS Voltage Regulators, 8-pin Micro SMD, Pb-Free; PartNumber: LP3986TL-285285/NOPB; Manufacturer: National Semiconductor; PackageTopMarking: XVD*I 11; PowerWise: N; CompType: LDO IC; High-Reliability: Y; DatasheetVersion: Feb-2007; PackageVersion: revC, Jan-2004; PackageReference: TLA08CCA; PackageDescription: Thin Micro SMD, 8 Bump (Large), 0.5mm Pitch; RoHS: Y; PinCount: 8; Code_JEDEC: MO-211-DD; ComponentLink1Description: Manufacturer URL; ComponentLink1URL: http://www.national.com/; ComponentLink2Description: LP3986 Datasheet; ComponentLink2URL: http://www.national.com/ds/LP/LP3986.pdf; ComponentLink3Description: LP3986 Web Page; ComponentLink3URL: http://www.national.com/pf/LP/LP3986.html; ComponentLink4Description: TLA08CCA Package Page; ComponentLink4URL: http://www.national.com/packaging/folders/tla08cca.html
footprint TLA08CCA (Micro SMD, 8-Leads, Body 1.57x1.57mm, Pitch 0.5mm, NSC Recommended)
pins: A1 OUT2 (power), A2 IN (power), A3 OUT1 (power), B1 EN2 (in), B3 EN1 (in), C1 CBYP, C2 GND (power), C3 GND (power)

## LP3986TLX285285/NOPB
designator U?
Dual Micropower 150 mA Ultra Low-Dropout CMOS Voltage Regulators, 8-pin Micro SMD, Pb-Free; PartNumber: LP3986TLX285285/NOPB; Manufacturer: National Semiconductor; PackageTopMarking: XVD*I 11; PowerWise: N; CompType: LDO IC; High-Reliability: Y; DatasheetVersion: Feb-2007; PackageVersion: revC, Jan-2004; PackageReference: TLA08CCA; PackageDescription: Thin Micro SMD, 8 Bump (Large), 0.5mm Pitch; RoHS: Y; PinCount: 8; Code_JEDEC: MO-211-DD; ComponentLink1Description: Manufacturer URL; ComponentLink1URL: http://www.national.com/; ComponentLink2Description: LP3986 Datasheet; ComponentLink2URL: http://www.national.com/ds/LP/LP3986.pdf; ComponentLink3Description: LP3986 Web Page; ComponentLink3URL: http://www.national.com/pf/LP/LP3986.html; ComponentLink4Description: TLA08CCA Package Page; ComponentLink4URL: http://www.national.com/packaging/folders/tla08cca.html
footprint TLA08CCA (Micro SMD, 8-Leads, Body 1.57x1.57mm, Pitch 0.5mm, NSC Recommended)
pins: A1 OUT2 (power), A2 IN (power), A3 OUT1 (power), B1 EN2 (in), B3 EN1 (in), C1 CBYP, C2 GND (power), C3 GND (power)

## LP3986TLX-2518/NOPB
designator U?
Dual Micropower 150 mA Ultra Low-Dropout CMOS Voltage Regulators, 8-pin Micro SMD, Pb-Free; PartNumber: LP3986TLX-2518/NOPB; Manufacturer: National Semiconductor; PackageTopMarking: XVD*I 30; PowerWise: N; CompType: LDO IC; High-Reliability: Y; DatasheetVersion: Feb-2007; PackageVersion: revC, Jan-2004; PackageReference: TLA08CCA; PackageDescription: Thin Micro SMD, 8 Bump (Large), 0.5mm Pitch; RoHS: Y; PinCount: 8; Code_JEDEC: MO-211-DD; ComponentLink1Description: Manufacturer URL; ComponentLink1URL: http://www.national.com/; ComponentLink2Description: LP3986 Datasheet; ComponentLink2URL: http://www.national.com/ds/LP/LP3986.pdf; ComponentLink3Description: LP3986 Web Page; ComponentLink3URL: http://www.national.com/pf/LP/LP3986.html; ComponentLink4Description: TLA08CCA Package Page; ComponentLink4URL: http://www.national.com/packaging/folders/tla08cca.html
footprint TLA08CCA (Micro SMD, 8-Leads, Body 1.57x1.57mm, Pitch 0.5mm, NSC Recommended)
pins: A1 OUT2 (power), A2 IN (power), A3 OUT1 (power), B1 EN2 (in), B3 EN1 (in), C1 CBYP, C2 GND (power), C3 GND (power)

## LP3986TLX-2525/NOPB
designator U?
Dual Micropower 150 mA Ultra Low-Dropout CMOS Voltage Regulators, 8-pin Micro SMD, Pb-Free; PartNumber: LP3986TLX-2525/NOPB; Manufacturer: National Semiconductor; PackageTopMarking: XVD*I 27; PowerWise: N; CompType: LDO IC; High-Reliability: Y; DatasheetVersion: Feb-2007; PackageVersion: revC, Jan-2004; PackageReference: TLA08CCA; PackageDescription: Thin Micro SMD, 8 Bump (Large), 0.5mm Pitch; RoHS: Y; PinCount: 8; Code_JEDEC: MO-211-DD; ComponentLink1Description: Manufacturer URL; ComponentLink1URL: http://www.national.com/; ComponentLink2Description: LP3986 Datasheet; ComponentLink2URL: http://www.national.com/ds/LP/LP3986.pdf; ComponentLink3Description: LP3986 Web Page; ComponentLink3URL: http://www.national.com/pf/LP/LP3986.html; ComponentLink4Description: TLA08CCA Package Page; ComponentLink4URL: http://www.national.com/packaging/folders/tla08cca.html
footprint TLA08CCA (Micro SMD, 8-Leads, Body 1.57x1.57mm, Pitch 0.5mm, NSC Recommended)
pins: A1 OUT2 (power), A2 IN (power), A3 OUT1 (power), B1 EN2 (in), B3 EN1 (in), C1 CBYP, C2 GND (power), C3 GND (power)

## LP3986TLX-2626/NOPB
designator U?
Dual Micropower 150 mA Ultra Low-Dropout CMOS Voltage Regulators, 8-pin Micro SMD, Pb-Free; PartNumber: LP3986TLX-2626/NOPB; Manufacturer: National Semiconductor; PackageTopMarking: XVD*I 28; PowerWise: N; CompType: LDO IC; High-Reliability: Y; DatasheetVersion: Feb-2007; PackageVersion: revC, Jan-2004; PackageReference: TLA08CCA; PackageDescription: Thin Micro SMD, 8 Bump (Large), 0.5mm Pitch; RoHS: Y; PinCount: 8; Code_JEDEC: MO-211-DD; ComponentLink1Description: Manufacturer URL; ComponentLink1URL: http://www.national.com/; ComponentLink2Description: LP3986 Datasheet; ComponentLink2URL: http://www.national.com/ds/LP/LP3986.pdf; ComponentLink3Description: LP3986 Web Page; ComponentLink3URL: http://www.national.com/pf/LP/LP3986.html; ComponentLink4Description: TLA08CCA Package Page; ComponentLink4URL: http://www.national.com/packaging/folders/tla08cca.html
footprint TLA08CCA (Micro SMD, 8-Leads, Body 1.57x1.57mm, Pitch 0.5mm, NSC Recommended)
pins: A1 OUT2 (power), A2 IN (power), A3 OUT1 (power), B1 EN2 (in), B3 EN1 (in), C1 CBYP, C2 GND (power), C3 GND (power)

## LP3986TLX-2818/NOPB
designator U?
Dual Micropower 150 mA Ultra Low-Dropout CMOS Voltage Regulators, 8-pin Micro SMD, Pb-Free; PartNumber: LP3986TLX-2818/NOPB; Manufacturer: National Semiconductor; PackageTopMarking: XVD*I 25; PowerWise: N; CompType: LDO IC; High-Reliability: Y; DatasheetVersion: Feb-2007; PackageVersion: revC, Jan-2004; PackageReference: TLA08CCA; PackageDescription: Thin Micro SMD, 8 Bump (Large), 0.5mm Pitch; RoHS: Y; PinCount: 8; Code_JEDEC: MO-211-DD; ComponentLink1Description: Manufacturer URL; ComponentLink1URL: http://www.national.com/; ComponentLink2Description: LP3986 Datasheet; ComponentLink2URL: http://www.national.com/ds/LP/LP3986.pdf; ComponentLink3Description: LP3986 Web Page; ComponentLink3URL: http://www.national.com/pf/LP/LP3986.html; ComponentLink4Description: TLA08CCA Package Page; ComponentLink4URL: http://www.national.com/packaging/folders/tla08cca.html
footprint TLA08CCA (Micro SMD, 8-Leads, Body 1.57x1.57mm, Pitch 0.5mm, NSC Recommended)
pins: A1 OUT2 (power), A2 IN (power), A3 OUT1 (power), B1 EN2 (in), B3 EN1 (in), C1 CBYP, C2 GND (power), C3 GND (power)

## LP3986TLX-2828/NOPB
designator U?
Dual Micropower 150 mA Ultra Low-Dropout CMOS Voltage Regulators, 8-pin Micro SMD, Pb-Free; PartNumber: LP3986TLX-2828/NOPB; Manufacturer: National Semiconductor; PackageTopMarking: XVD*I 10; PowerWise: N; CompType: LDO IC; High-Reliability: Y; DatasheetVersion: Feb-2007; PackageVersion: revC, Jan-2004; PackageReference: TLA08CCA; PackageDescription: Thin Micro SMD, 8 Bump (Large), 0.5mm Pitch; RoHS: Y; PinCount: 8; Code_JEDEC: MO-211-DD; ComponentLink1Description: Manufacturer URL; ComponentLink1URL: http://www.national.com/; ComponentLink2Description: LP3986 Datasheet; ComponentLink2URL: http://www.national.com/ds/LP/LP3986.pdf; ComponentLink3Description: LP3986 Web Page; ComponentLink3URL: http://www.national.com/pf/LP/LP3986.html; ComponentLink4Description: TLA08CCA Package Page; ComponentLink4URL: http://www.national.com/packaging/folders/tla08cca.html
footprint TLA08CCA (Micro SMD, 8-Leads, Body 1.57x1.57mm, Pitch 0.5mm, NSC Recommended)
pins: A1 OUT2 (power), A2 IN (power), A3 OUT1 (power), B1 EN2 (in), B3 EN1 (in), C1 CBYP, C2 GND (power), C3 GND (power)

## LP3986TLX-2929/NOPB
designator U?
Dual Micropower 150 mA Ultra Low-Dropout CMOS Voltage Regulators, 8-pin Micro SMD, Pb-Free; PartNumber: LP3986TLX-2929/NOPB; Manufacturer: National Semiconductor; PackageTopMarking: XVD*I 15; PowerWise: N; CompType: LDO IC; High-Reliability: Y; DatasheetVersion: Feb-2007; PackageVersion: revC, Jan-2004; PackageReference: TLA08CCA; PackageDescription: Thin Micro SMD, 8 Bump (Large), 0.5mm Pitch; RoHS: Y; PinCount: 8; Code_JEDEC: MO-211-DD; ComponentLink1Description: Manufacturer URL; ComponentLink1URL: http://www.national.com/; ComponentLink2Description: LP3986 Datasheet; ComponentLink2URL: http://www.national.com/ds/LP/LP3986.pdf; ComponentLink3Description: LP3986 Web Page; ComponentLink3URL: http://www.national.com/pf/LP/LP3986.html; ComponentLink4Description: TLA08CCA Package Page; ComponentLink4URL: http://www.national.com/packaging/folders/tla08cca.html
footprint TLA08CCA (Micro SMD, 8-Leads, Body 1.57x1.57mm, Pitch 0.5mm, NSC Recommended)
pins: A1 OUT2 (power), A2 IN (power), A3 OUT1 (power), B1 EN2 (in), B3 EN1 (in), C1 CBYP, C2 GND (power), C3 GND (power)

## LP3986TLX-3028/NOPB
designator U?
Dual Micropower 150 mA Ultra Low-Dropout CMOS Voltage Regulators, 8-pin Micro SMD, Pb-Free; PartNumber: LP3986TLX-3028/NOPB; Manufacturer: National Semiconductor; PackageTopMarking: XVD*I 26; PowerWise: N; CompType: LDO IC; High-Reliability: Y; DatasheetVersion: Feb-2007; PackageVersion: revC, Jan-2004; PackageReference: TLA08CCA; PackageDescription: Thin Micro SMD, 8 Bump (Large), 0.5mm Pitch; RoHS: Y; PinCount: 8; Code_JEDEC: MO-211-DD; ComponentLink1Description: Manufacturer URL; ComponentLink1URL: http://www.national.com/; ComponentLink2Description: LP3986 Datasheet; ComponentLink2URL: http://www.national.com/ds/LP/LP3986.pdf; ComponentLink3Description: LP3986 Web Page; ComponentLink3URL: http://www.national.com/pf/LP/LP3986.html; ComponentLink4Description: TLA08CCA Package Page; ComponentLink4URL: http://www.national.com/packaging/folders/tla08cca.html
footprint TLA08CCA (Micro SMD, 8-Leads, Body 1.57x1.57mm, Pitch 0.5mm, NSC Recommended)
pins: A1 OUT2 (power), A2 IN (power), A3 OUT1 (power), B1 EN2 (in), B3 EN1 (in), C1 CBYP, C2 GND (power), C3 GND (power)